# EAGLE library part 7807 (library 7807)
KEYSTONE - 7807 - TERMINAL, PCB SCREW, 2.57MM Source: Datasheet <http://www.keyelco.com/product-pdf.cfm?p=1119>
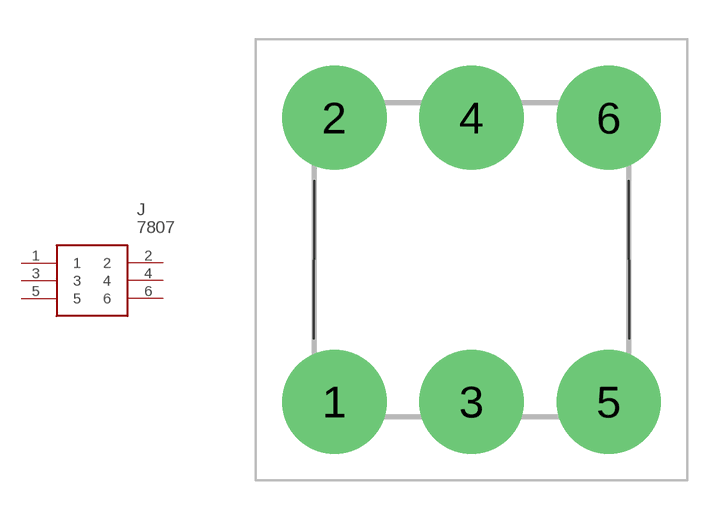
[diagram p0: symbol with the pads of 7807; footprint 7807]

Designator prefix J

## 7807 (Description: KEYSTONE - 7807 - TERMINAL, PCB SCREW, 2.57MM; Height: 11.76mm; Manufacturer_Name: Keystone Electronics; Manufacturer_Part_Number: 7807; Mouser_Part_Number: 534-7807; Mouser_Price-Stock: https://www.mouser.co.uk/ProductDetail/Keystone-Electronics/7807?qs=%2F%252BPMR94VuMaEJokheHBVWg%3D%3D)  [7807]
1  1
2  2
3  3
4  4
5  5
6  6

## Footprint 7807 (pad centres in mm)
7807-1
drill 2.64 pad 3.96: 1 0,0; 2 0,10.8; 3 5.21,0; 4 5.21,10.8; 5 10.42,0; 6 10.42,10.8